# Altium schematic symbol library ENS220S-BLGT_LGA10_T&R_3K5.SchLib: 1 symbol
Pins are listed as number, name and electrical type; pins without a type are passive.

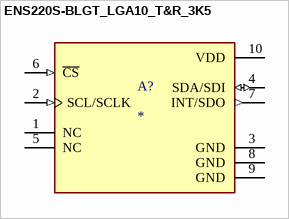
[diagram p0: symbol ENS220S-BLGT_LGA10_T&R_3K5]

## ENS220S-BLGT_LGA10_T&R_3K5
designator A?
Premium accuracy barometric pressure and temperature sensor for activity tracking and indoor navigation/localization; MF: ScioSense; MP: ENS220S-BLGT LGA10 T&amp;R 3K5; SnapEDA_Link: https://www.snapeda.com/parts/ENS220S-BLGT%20LGA10%20T&R%203K5/ScioSense/view-part/?ref=snap; Package: None; Value: *; Check_prices: https://www.snapeda.com/parts/ENS220S-BLGT%20LGA10%20T&R%203K5/ScioSense/view-part/?ref=eda
footprint XDCR_ENS220S-BLGT_LGA10_T&R_3K5
pins: 1 NC, 2 SCL/SCLK (in), 3 GND (power), 4 SDA/SDI (io), 5 NC, 6 ~{CS} (in), 7 INT/SDO (out), 8 GND (power), 9 GND (power), 10 VDD (power)